# Altium footprint library parts.PCBLIB: 16 footprints
Each footprint in its own frame and in the unit in brackets; x right, y up, seen from the top. Pads: shape width x height; smd on the part's side, far side on the other; paste and mask are expansions set on the pad; w line width, h text height; cw(c..) or ccw(c..) is an arc to the next point about the centre after c.
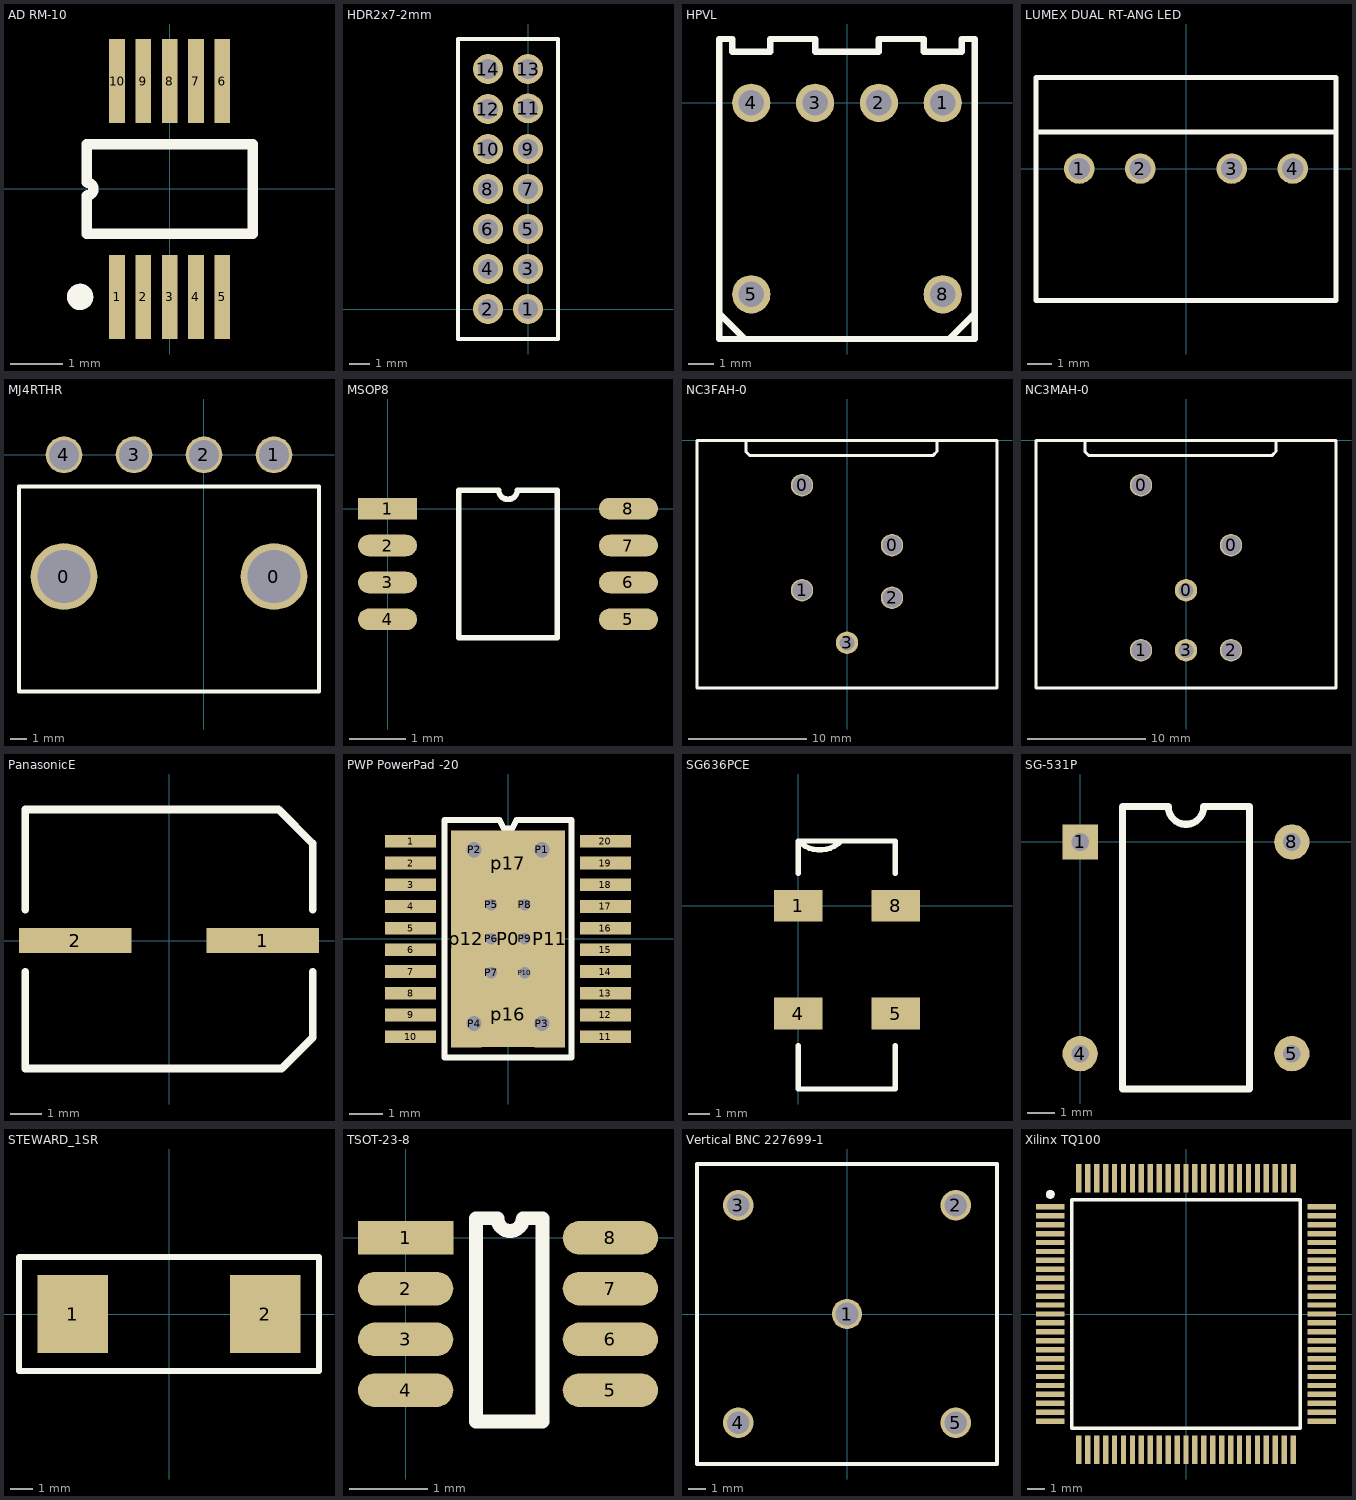
[diagram p0: the footprints below, top view; thin cyan lines are the x and y axes]

## AD RM-10 [mm] "Shrink Small Outline; 10 Leads; Body Width 3 mm; Pitch 0.5 mm"
height 1.1
pads (10):
  rect 0.3x1.6 smd: 1(-1,-2.05) 2(-0.5,-2.05) 3(0,-2.05) 4(0.5,-2.05) 5(1,-2.05) 6(1,2.05) 7(0.5,2.05) 8(0,2.05) 9(-0.5,2.05) 10(-1,2.05)
Top Overlay:
  circle w0.25: c-1.7,-2.05 r0.125
  lines w0.2: -1.575,-0.85 -1.575,-0.125 ccw(c-1.575,0) -1.575,0.125 -1.575,0.85 1.575,0.85 1.575,-0.85 -1.575,-0.85

## HDR2x7-2mm [mm]
pads (14):
  round 1.5 hole 1: 1(0,0) 2(-2,0) 3(0,2) 4(-2,2) 5(0,4) 6(-2,4) 7(0,6) 8(-2,6) 9(0,8) 10(-2,8) 11(0,10.033) 12(-2,10) 13(0,12) 14(-2,12)
Top Overlay:
  lines w0.2: -3.5,-1.5 -3.5,13.5 1.5,13.5 1.5,-1.5 -3.5,-1.5

## HPVL [mil]
pads (6):
  round 60 hole 40: 1(150,0) 2(50,0) 3(-50,0) 4(-150,0) 5(-150,-300) 8(150,-300)
Top Overlay:
  lines w10: -200,-340 -200,0 ; -200,-330 -160,-370 ; -200,-300 -200,-370 200,-370 200,-340 200,0 200,100 180,100 180,80 120,80 120,100 50,100 50,80 -50,80 -50,100 -120,100 -120,80 -180,80 -180,100 -200,100 -200,-10 ; 160,-370 200,-330

## LUMEX DUAL RT-ANG LED [mil] "Lumex Dual Right-angle LED holder for part SSF-LXH2100XX"
pads (4):
  round 50 hole 35: 1(-175.2,0) 2(-75,0) 3(75,0) 4(175.2,0)
Top Overlay:
  lines w8: -246.06,60 246.06,60 ; -246.06,-216.54 -246.06,149.61 246.06,149.61 246.06,-216.54 -246.06,-216.54

## MJ4RTHR [mm]
pads (6):
  round 4 hole 3.2: 0(-8.4,-7.3) 0(4.2,-7.3)
  round 2.2 hole 1.8: 1(4.2,0) 2(0,0) 3(-4.2,0) 4(-8.4,0)
Top Overlay:
  lines w0.254: -11.1,-14.2 6.9,-14.2 6.9,-1.9 -11.1,-1.9 -11.1,-14.2

## MSOP8 [mm]
pads (8):
  rect 1.04x0.38 smd: 1(0,0)
  oval 1.04x0.38 smd: 2(0,-0.65) 3(0,-1.3) 4(0,-1.95) 5(4.24,-1.95) 6(4.24,-1.3) 7(4.24,-0.65) 8(4.24,0)
Top Overlay:
  lines w0.1: 1.255,-2.275 1.255,0.325 1.957,0.325 ccw(c2.12,0.325) 2.282,0.325 2.985,0.325 2.985,-2.275 1.255,-2.275

## NC3FAH-0 [mil] "Neutrik 3 pole female XLR receptacle, plastic housing, horizontal PCB mount."
pads (5):
  round 75 hole 65: 0(-150,-150) 0(150,-350) 1(-150,-500) 2(150,-525)
  round 75 hole 50: 3(0,-675)
Top Overlay:
  lines w10: -337.5,0 -337.5,-37.5 -325,-50 287.5,-50 300,-37.5 300,0 ; -500,-825 -500,0 500,0 500,-825 -500,-825

## NC3MAH-0 [mil] "Neutrik 3 pole male XLR receptacle, plastic housing, horizontal PCB mount."
pads (6):
  round 75 hole 65: 0(-150,-150) 0(150,-350) 1(-150,-700) 2(150,-700)
  round 75 hole 50: 0(0,-500) 3(0,-700)
Top Overlay:
  lines w10: -337.5,0 -337.5,-37.5 -325,-50 287.5,-50 300,-37.5 300,0 ; -500,-825 500,-825 500,0 -500,0 -500,-825

## PanasonicE [mm]
pads (2):
  rect 3.6x0.8 smd: 1(3,0) 2(-3,0)
Top Overlay:
  lines w0.254: -4.6,-1 -4.6,-4.1 3.6,-4.1 4.6,-3.1 4.6,-1 ; -4.6,1 -4.6,4.2 3.5,4.2 4.6,3.1 4.6,1

## PWP PowerPad -20 [mil]
pads (35):
  rect 60x15 smd: 1(-115,115) 2(-115,89.4) 3(-115,63.8) 4(-115,38.2) 5(-115,12.6) 6(-115,-13) 7(-115,-38.6) 8(-115,-64.2) 9(-115,-89.8) 10(-115,-115.4) 11(115,-115.4) 12(115,-89.8) 13(115,-64.2) 14(115,-38.6) 15(115,-13) 16(115,12.6) 17(115,38.2) 18(115,63.8) 19(115,89.4) 20(115,115)
  rect 62x101 smd paste+0 mask+0: P0(0,0)
  round 20 hole 18 mask-20: P1(40,105) P2(-40,105) P3(40,-100) P4(-40,-100)
  round 20 hole 13.5 mask-20: P5(-20,40) P6(-20,0) P7(-20,-40) P8(20,40) P9(20,0) P10(20,-40)
  rect 36x256 smd mask+0: P11(49,0) p12(-49,0)
  rect 62x77.5 smd mask+0: p16(0,-89) p17(0,89)
Top Overlay:
  lines w7: -75,-140 75,-140 75,140 15,140 10,140 5,130 -5,130 -10,140 -75,140 -75,-140

## SG636PCE [mm]
pads (4):
  rect 2.3x1.5 smd: 1(0,0) 4(0,-5.08) 5(4.6,-5.08) 8(4.6,0)
Top Overlay:
  lines w0.254: 0,-6.604 0,-8.636 4.572,-8.636 4.572,-6.604 ; 0,1.524 0,3.048 ; 2.032,3.048 cw(c1.016,4.064) 0,3.048 ; 4.572,1.524 4.572,3.048 0,3.048

## SG-531P [mm]
pads (4):
  rect 1.27x1.27 hole 0.635: 1(0,0)
  round 1.27 hole 0.635: 4(0,-7.62) 5(7.62,-7.62) 8(7.62,0)
Top Overlay:
  lines w0.254: 1.524,-8.89 6.096,-8.89 6.096,1.27 4.445,1.27 cw(c3.81,1.27) 3.175,1.27 1.524,1.27 1.524,-8.89

## STEWARD_1SR [mil]
pads (2):
  rect 124x136 smd: 1(-169,0) 2(169,0)
Top Overlay:
  lines w10: -263,-100 263,-100 263,100 -263,100 -263,0 -263,-100

## TSOT-23-8 [mm]
pads (8):
  rect 1.22x0.43 smd: 1(0,0)
  oval 1.22x0.43 smd: 2(0,-0.65) 3(0,-1.3) 4(0,-1.95) 5(2.62,-1.95) 6(2.62,-1.3) 7(2.62,-0.65) 8(2.62,0)
Top Overlay:
  lines w0.178: 1.15,0.25 0.9,0.25 0.9,-2.35 1.75,-2.35 1.75,0.25 1.525,0.25 ; 1.175,0.25 ccw(c1.337,0.25) 1.5,0.25

## Vertical BNC 227699-1 [mil] "AMP vertical BNC 227699-1"
pads (5):
  round 70 hole 52: 1(0,0) 2(250,250) 3(-250,250) 4(-250,-250) 5(250,-250)
Top Overlay:
  lines w10: -345,-345 -345,345 345,345 345,-345 -345,-345

## Xilinx TQ100 [mm] "QFP; 100 Leads; Body 14 x 14 mm; Pitch 0.5 mm"
height 2.2
pads (100):
  rect 1.6x0.3 smd: 1(-7.6,6) 2(-7.6,5.5) 3(-7.6,5) 4(-7.6,4.5) 5(-7.6,4) 6(-7.6,3.5) 7(-7.6,3) 8(-7.6,2.5) 9(-7.6,2) 10(-7.6,1.5) 11(-7.6,1) 12(-7.6,0.5) 13(-7.6,0) 14(-7.6,-0.5) 15(-7.6,-1) 16(-7.6,-1.5) 17(-7.6,-2) 18(-7.6,-2.5) 19(-7.6,-3) 20(-7.6,-3.5) 21(-7.6,-4) 22(-7.6,-4.5) 23(-7.6,-5) 24(-7.6,-5.5) 25(-7.6,-6) 51(7.6,-6) 52(7.6,-5.5) 53(7.6,-5) 54(7.6,-4.5) 55(7.6,-4) 56(7.6,-3.5) 57(7.6,-3) 58(7.6,-2.5) 59(7.6,-2) 60(7.6,-1.5) 61(7.6,-1) 62(7.6,-0.5) 63(7.6,0) 64(7.6,0.5) 65(7.6,1) 66(7.6,1.5) 67(7.6,2) 68(7.6,2.5) 69(7.6,3) 70(7.6,3.5) 71(7.6,4) 72(7.6,4.5) 73(7.6,5) 74(7.6,5.5) 75(7.6,6)
  rect 0.3x1.6 smd: 26(-6,-7.6) 27(-5.5,-7.6) 28(-5,-7.6) 29(-4.5,-7.6) 30(-4,-7.6) 31(-3.5,-7.6) 32(-3,-7.6) 33(-2.5,-7.6) 34(-2,-7.6) 35(-1.5,-7.6) 36(-1,-7.6) 37(-0.5,-7.6) 38(0,-7.6) 39(0.5,-7.6) 40(1,-7.6) 41(1.5,-7.6) 42(2,-7.6) 43(2.5,-7.6) 44(3,-7.6) 45(3.5,-7.6) 46(4,-7.6) 47(4.5,-7.6) 48(5,-7.6) 49(5.5,-7.6) 50(6,-7.6) 76(6,7.6) 77(5.5,7.6) 78(5,7.6) 79(4.5,7.6) 80(4,7.6) 81(3.5,7.6) 82(3,7.6) 83(2.5,7.6) 84(2,7.6) 85(1.5,7.6) 86(1,7.6) 87(0.5,7.6) 88(0,7.6) 89(-0.5,7.6) 90(-1,7.6) 91(-1.5,7.6) 92(-2,7.6) 93(-2.5,7.6) 94(-3,7.6) 95(-3.5,7.6) 96(-4,7.6) 97(-4.5,7.6) 98(-5,7.6) 99(-5.5,7.6) 100(-6,7.6)
Top Overlay:
  circle w0.25: c-7.6,6.7 r0.125
  lines w0.2: -6.4,-6.4 -6.4,6.4 6.4,6.4 6.4,-6.4 -6.4,-6.4